# Altium footprint library a3pe600.PcbLib: 1 footprints
Each footprint in its own frame and in the unit in brackets; x right, y up, seen from the top. Pads: shape width x height; smd on the part's side, far side on the other; paste and mask are expansions set on the pad; w line width, h text height; cw(c..) or ccw(c..) is an arc to the next point about the centre after c.
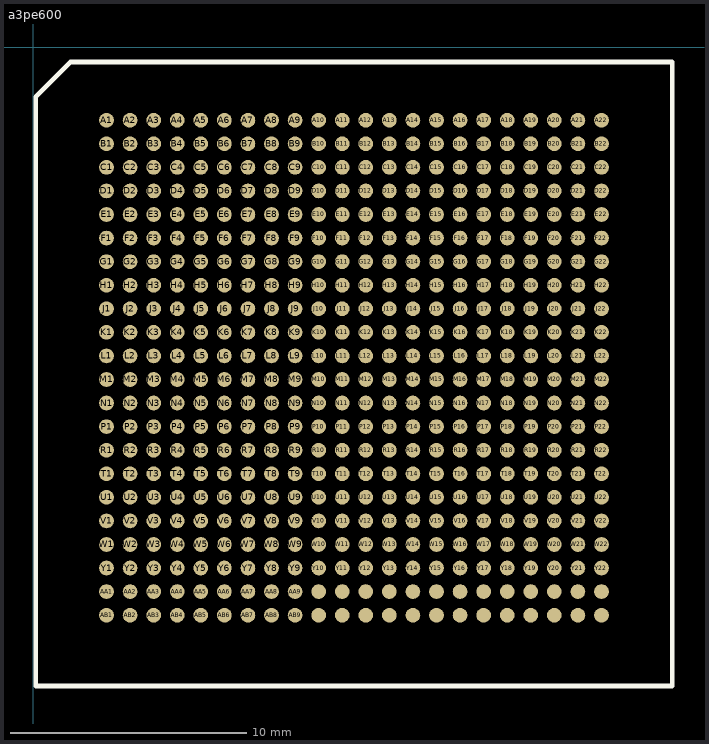
[diagram p0: the footprint, top view; thin cyan lines are the x and y axes]

## a3pe600 [mm]
pads (484):
  round 0.625 smd mask+0.025: A1(3.1,-3.1) A2(4.1,-3.1) A3(5.1,-3.1) A4(6.1,-3.1) A5(7.1,-3.1) A6(8.1,-3.1) A7(9.1,-3.1) A8(10.1,-3.1) A9(11.1,-3.1) A10(12.1,-3.1) A11(13.1,-3.1) A12(14.1,-3.1) A13(15.1,-3.1) A14(16.1,-3.1) A15(17.1,-3.1) A16(18.1,-3.1) A17(19.1,-3.1) A18(20.1,-3.1) A19(21.1,-3.1) A20(22.1,-3.1) A21(23.1,-3.1) A22(24.1,-3.1) AA1(3.1,-23.1) AA2(4.1,-23.1) AA3(5.1,-23.1) AA4(6.1,-23.1) AA5(7.1,-23.1) AA6(8.1,-23.1) AA7(9.1,-23.1) AA8(10.1,-23.1) AA9(11.1,-23.1) AA10(12.1,-23.1) AA11(13.1,-23.1) AA12(14.1,-23.1) AA13(15.1,-23.1) AA14(16.1,-23.1) AA15(17.1,-23.1) AA16(18.1,-23.1) AA17(19.1,-23.1) AA18(20.1,-23.1) AA19(21.1,-23.1) AA20(22.1,-23.1) AA21(23.1,-23.1) AA22(24.1,-23.1) AB1(3.1,-24.1) AB2(4.1,-24.1) AB3(5.1,-24.1) AB4(6.1,-24.1) AB5(7.1,-24.1) AB6(8.1,-24.1) AB7(9.1,-24.1) AB8(10.1,-24.1) AB9(11.1,-24.1) AB10(12.1,-24.1) AB11(13.1,-24.1) AB12(14.1,-24.1) AB13(15.1,-24.1) AB14(16.1,-24.1) AB15(17.1,-24.1) AB16(18.1,-24.1) AB17(19.1,-24.1) AB18(20.1,-24.1) AB19(21.1,-24.1) AB20(22.1,-24.1) AB21(23.1,-24.1) AB22(24.1,-24.1) B1(3.1,-4.1) B2(4.1,-4.1) B3(5.1,-4.1) B4(6.1,-4.1) B5(7.1,-4.1) B6(8.1,-4.1) B7(9.1,-4.1) B8(10.1,-4.1) B9(11.1,-4.1) B10(12.1,-4.1) B11(13.1,-4.1) B12(14.1,-4.1) B13(15.1,-4.1) B14(16.1,-4.1) B15(17.1,-4.1) B16(18.1,-4.1) B17(19.1,-4.1) B18(20.1,-4.1) B19(21.1,-4.1) B20(22.1,-4.1) B21(23.1,-4.1) B22(24.1,-4.1) C1(3.1,-5.1) C2(4.1,-5.1) C3(5.1,-5.1) C4(6.1,-5.1) C5(7.1,-5.1) C6(8.1,-5.1) C7(9.1,-5.1) C8(10.1,-5.1) C9(11.1,-5.1) C10(12.1,-5.1) C11(13.1,-5.1) C12(14.1,-5.1) C13(15.1,-5.1) C14(16.1,-5.1) C15(17.1,-5.1) C16(18.1,-5.1) C17(19.1,-5.1) C18(20.1,-5.1) C19(21.1,-5.1) C20(22.1,-5.1) C21(23.1,-5.1) C22(24.1,-5.1) D1(3.1,-6.1) D2(4.1,-6.1) D3(5.1,-6.1) D4(6.1,-6.1) D5(7.1,-6.1) D6(8.1,-6.1) D7(9.1,-6.1) D8(10.1,-6.1) D9(11.1,-6.1) D10(12.1,-6.1) D11(13.1,-6.1) D12(14.1,-6.1) D13(15.1,-6.1) D14(16.1,-6.1) D15(17.1,-6.1) D16(18.1,-6.1) D17(19.1,-6.1) D18(20.1,-6.1) D19(21.1,-6.1) D20(22.1,-6.1) D21(23.1,-6.1) D22(24.1,-6.1) E1(3.1,-7.1) E2(4.1,-7.1) E3(5.1,-7.1) E4(6.1,-7.1) E5(7.1,-7.1) E6(8.1,-7.1) E7(9.1,-7.1) E8(10.1,-7.1) E9(11.1,-7.1) E10(12.1,-7.1) E11(13.1,-7.1) E12(14.1,-7.1) E13(15.1,-7.1) E14(16.1,-7.1) E15(17.1,-7.1) E16(18.1,-7.1) E17(19.1,-7.1) E18(20.1,-7.1) E19(21.1,-7.1) E20(22.1,-7.1) E21(23.1,-7.1) E22(24.1,-7.1) F1(3.1,-8.1) F2(4.1,-8.1) F3(5.1,-8.1) F4(6.1,-8.1) F5(7.1,-8.1) F6(8.1,-8.1) F7(9.1,-8.1) F8(10.1,-8.1) F9(11.1,-8.1) F10(12.1,-8.1) F11(13.1,-8.1) F12(14.1,-8.1) F13(15.1,-8.1) F14(16.1,-8.1) F15(17.1,-8.1) F16(18.1,-8.1) F17(19.1,-8.1) F18(20.1,-8.1) F19(21.1,-8.1) F20(22.1,-8.1) F21(23.1,-8.1) F22(24.1,-8.1) G1(3.1,-9.1) G2(4.1,-9.1) G3(5.1,-9.1) G4(6.1,-9.1) G5(7.1,-9.1) G6(8.1,-9.1) G7(9.1,-9.1) G8(10.1,-9.1) G9(11.1,-9.1) G10(12.1,-9.1) G11(13.1,-9.1) G12(14.1,-9.1) G13(15.1,-9.1) G14(16.1,-9.1) G15(17.1,-9.1) G16(18.1,-9.1) G17(19.1,-9.1) G18(20.1,-9.1) G19(21.1,-9.1) G20(22.1,-9.1) G21(23.1,-9.1) G22(24.1,-9.1) H1(3.1,-10.1) H2(4.1,-10.1) H3(5.1,-10.1) H4(6.1,-10.1) H5(7.1,-10.1) H6(8.1,-10.1) H7(9.1,-10.1) H8(10.1,-10.1) H9(11.1,-10.1) H10(12.1,-10.1) H11(13.1,-10.1) H12(14.1,-10.1) H13(15.1,-10.1) H14(16.1,-10.1) H15(17.1,-10.1) H16(18.1,-10.1) H17(19.1,-10.1) H18(20.1,-10.1) H19(21.1,-10.1) H20(22.1,-10.1) H21(23.1,-10.1) H22(24.1,-10.1) J1(3.1,-11.1) J2(4.1,-11.1) J3(5.1,-11.1) J4(6.1,-11.1) J5(7.1,-11.1) J6(8.1,-11.1) J7(9.1,-11.1) J8(10.1,-11.1) J9(11.1,-11.1) J10(12.1,-11.1) J11(13.1,-11.1) J12(14.1,-11.1) J13(15.1,-11.1) J14(16.1,-11.1) J15(17.1,-11.1) J16(18.1,-11.1) J17(19.1,-11.1) J18(20.1,-11.1) J19(21.1,-11.1) J20(22.1,-11.1) J21(23.1,-11.1) J22(24.1,-11.1) K1(3.1,-12.1) K2(4.1,-12.1) K3(5.1,-12.1) K4(6.1,-12.1) K5(7.1,-12.1) K6(8.1,-12.1) K7(9.1,-12.1) K8(10.1,-12.1) K9(11.1,-12.1) K10(12.1,-12.1) K11(13.1,-12.1) K12(14.1,-12.1) K13(15.1,-12.1) K14(16.1,-12.1) K15(17.1,-12.1) K16(18.1,-12.1) K17(19.1,-12.1) K18(20.1,-12.1) K19(21.1,-12.1) K20(22.1,-12.1) K21(23.1,-12.1) K22(24.1,-12.1) L1(3.1,-13.1) L2(4.1,-13.1) L3(5.1,-13.1) L4(6.1,-13.1) L5(7.1,-13.1) L6(8.1,-13.1) L7(9.1,-13.1) L8(10.1,-13.1) L9(11.1,-13.1) L10(12.1,-13.1) L11(13.1,-13.1) L12(14.1,-13.1) L13(15.1,-13.1) L14(16.1,-13.1) L15(17.1,-13.1) L16(18.1,-13.1) L17(19.1,-13.1) L18(20.1,-13.1) L19(21.1,-13.1) L20(22.1,-13.1) L21(23.1,-13.1) L22(24.1,-13.1) M1(3.1,-14.1) M2(4.1,-14.1) M3(5.1,-14.1) M4(6.1,-14.1) M5(7.1,-14.1) M6(8.1,-14.1) M7(9.1,-14.1) M8(10.1,-14.1) M9(11.1,-14.1) M10(12.1,-14.1) M11(13.1,-14.1) M12(14.1,-14.1) M13(15.1,-14.1) M14(16.1,-14.1) M15(17.1,-14.1) M16(18.1,-14.1) M17(19.1,-14.1) M18(20.1,-14.1) M19(21.1,-14.1) M20(22.1,-14.1) M21(23.1,-14.1) M22(24.1,-14.1) N1(3.1,-15.1) N2(4.1,-15.1) N3(5.1,-15.1) N4(6.1,-15.1) N5(7.1,-15.1) N6(8.1,-15.1) N7(9.1,-15.1) N8(10.1,-15.1) N9(11.1,-15.1) N10(12.1,-15.1) N11(13.1,-15.1) N12(14.1,-15.1) N13(15.1,-15.1) N14(16.1,-15.1) N15(17.1,-15.1) N16(18.1,-15.1) N17(19.1,-15.1) N18(20.1,-15.1) N19(21.1,-15.1) N20(22.1,-15.1) N21(23.1,-15.1) N22(24.1,-15.1) P1(3.1,-16.1) P2(4.1,-16.1) P3(5.1,-16.1) P4(6.1,-16.1) P5(7.1,-16.1) P6(8.1,-16.1) P7(9.1,-16.1) P8(10.1,-16.1) P9(11.1,-16.1) P10(12.1,-16.1) P11(13.1,-16.1) P12(14.1,-16.1) P13(15.1,-16.1) P14(16.1,-16.1) P15(17.1,-16.1) P16(18.1,-16.1) P17(19.1,-16.1) P18(20.1,-16.1) P19(21.1,-16.1) P20(22.1,-16.1) P21(23.1,-16.1) P22(24.1,-16.1) R1(3.1,-17.1) R2(4.1,-17.1) R3(5.1,-17.1) R4(6.1,-17.1) R5(7.1,-17.1) R6(8.1,-17.1) R7(9.1,-17.1) R8(10.1,-17.1) R9(11.1,-17.1) R10(12.1,-17.1) R11(13.1,-17.1) R12(14.1,-17.1) R13(15.1,-17.1) R14(16.1,-17.1) R15(17.1,-17.1) R16(18.1,-17.1) R17(19.1,-17.1) R18(20.1,-17.1) R19(21.1,-17.1) R20(22.1,-17.1) R21(23.1,-17.1) R22(24.1,-17.1) T1(3.1,-18.1) T2(4.1,-18.1) T3(5.1,-18.1) T4(6.1,-18.1) T5(7.1,-18.1) T6(8.1,-18.1) T7(9.1,-18.1) T8(10.1,-18.1) T9(11.1,-18.1) T10(12.1,-18.1) T11(13.1,-18.1) T12(14.1,-18.1) T13(15.1,-18.1) T14(16.1,-18.1) T15(17.1,-18.1) T16(18.1,-18.1) T17(19.1,-18.1) T18(20.1,-18.1) T19(21.1,-18.1) T20(22.1,-18.1) T21(23.1,-18.1) T22(24.1,-18.1) U1(3.1,-19.1) U2(4.1,-19.1) U3(5.1,-19.1) U4(6.1,-19.1) U5(7.1,-19.1) U6(8.1,-19.1) U7(9.1,-19.1) U8(10.1,-19.1) U9(11.1,-19.1) U10(12.1,-19.1) U11(13.1,-19.1) U12(14.1,-19.1) U13(15.1,-19.1) U14(16.1,-19.1) U15(17.1,-19.1) U16(18.1,-19.1) U17(19.1,-19.1) U18(20.1,-19.1) U19(21.1,-19.1) U20(22.1,-19.1) U21(23.1,-19.1) U22(24.1,-19.1) V1(3.1,-20.1) V2(4.1,-20.1) V3(5.1,-20.1) V4(6.1,-20.1) V5(7.1,-20.1) V6(8.1,-20.1) V7(9.1,-20.1) V8(10.1,-20.1) V9(11.1,-20.1) V10(12.1,-20.1) V11(13.1,-20.1) V12(14.1,-20.1) V13(15.1,-20.1) V14(16.1,-20.1) V15(17.1,-20.1) V16(18.1,-20.1) V17(19.1,-20.1) V18(20.1,-20.1) V19(21.1,-20.1) V20(22.1,-20.1) V21(23.1,-20.1) V22(24.1,-20.1) W1(3.1,-21.1) W2(4.1,-21.1) W3(5.1,-21.1) W4(6.1,-21.1) W5(7.1,-21.1) W6(8.1,-21.1) W7(9.1,-21.1) W8(10.1,-21.1) W9(11.1,-21.1) W10(12.1,-21.1) W11(13.1,-21.1) W12(14.1,-21.1) W13(15.1,-21.1) W14(16.1,-21.1) W15(17.1,-21.1) W16(18.1,-21.1) W17(19.1,-21.1) W18(20.1,-21.1) W19(21.1,-21.1) W20(22.1,-21.1) W21(23.1,-21.1) W22(24.1,-21.1) Y1(3.1,-22.1) Y2(4.1,-22.1) Y3(5.1,-22.1) Y4(6.1,-22.1) Y5(7.1,-22.1) Y6(8.1,-22.1) Y7(9.1,-22.1) Y8(10.1,-22.1) Y9(11.1,-22.1) Y10(12.1,-22.1) Y11(13.1,-22.1) Y12(14.1,-22.1) Y13(15.1,-22.1) Y14(16.1,-22.1) Y15(17.1,-22.1) Y16(18.1,-22.1) Y17(19.1,-22.1) Y18(20.1,-22.1) Y19(21.1,-22.1) Y20(22.1,-22.1) Y21(23.1,-22.1) Y22(24.1,-22.1)
Top Overlay:
  lines w0.203: 0.1,-27.1 27.1,-27.1 27.1,-0.635 1.565,-0.635 0.1,-2.1 0.1,-27.1
3D body: height 5.08, standoff 0, extent 0.127,-27.051 27.051,-0.635